# EAGLE library part MCP23S17T-E/SO (library Zach)
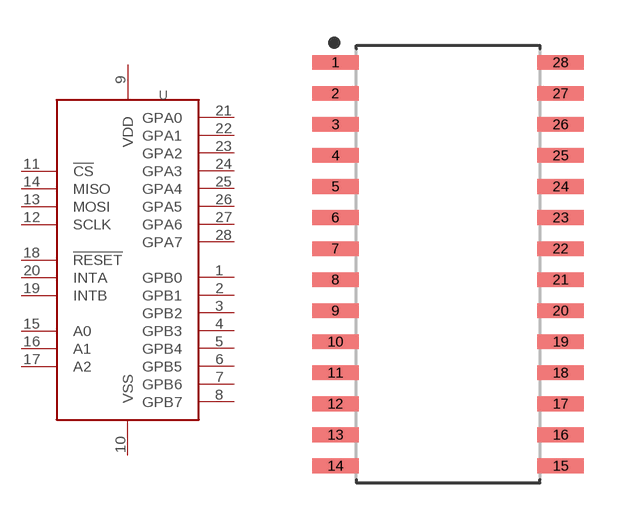
[diagram p4: symbol with the pads of MCP23S17T-E/SO; footprint MCP23S17T-E/SO]

Designator prefix U

## MCP23S17T-E/SO  [MCP23S17T-E/SO]
1  GPB0
2  GPB1
3  GPB2
4  GPB3
5  GPB4
6  GPB5
7  GPB6
8  GPB7
9  VDD
10  VSS
11  !CS
12  SCLK
13  MOSI
14  MISO
15  A0
16  A1
17  A2
18  !RESET
19  INTB
20  INTA
21  GPA0
22  GPA1
23  GPA2
24  GPA3
25  GPA4
26  GPA5
27  GPA6
28  GPA7

## Footprint MCP23S17T-E/SO (pad centres in mm)
28-SOIC, 1.27 mm pitch, 10.30 mm span, 17.90 X 7.50 X 2.65 mm body 28-pin SOIC package with 1.27 mm pitch, 10.30 mm span with body size 17.90 X 7.50 X 2.65 mm
smd 1.901 x 0.599: 1 -4.605,8.255; 2 -4.605,6.985; 3 -4.605,5.715; 4 -4.605,4.445; 5 -4.605,3.175; 6 -4.605,1.905; 7 -4.605,0.635; 8 -4.605,-0.635; 9 -4.605,-1.905; 10 -4.605,-3.175; 11 -4.605,-4.445; 12 -4.605,-5.715; 13 -4.605,-6.985; 14 -4.605,-8.255; 15 4.605,-8.255; 16 4.605,-6.985; 17 4.605,-5.715; 18 4.605,-4.445; 19 4.605,-3.175; 20 4.605,-1.905; 21 4.605,-0.635; 22 4.605,0.635; 23 4.605,1.905; 24 4.605,3.175; 25 4.605,4.445; 26 4.605,5.715; 27 4.605,6.985; 28 4.605,8.255